# Altium schematic symbol library 15492543-B_L-Y.SchLib: 1 symbol
Pins are listed as number, name and electrical type; pins without a type are passive.

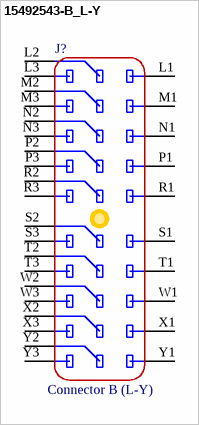
[diagram p0: symbol 15492543-B_L-Y]

## 15492543-B_L-Y
designator J?  Type: Connector B (L-Y)  (hidden comment: 15492543-B_L-Y)
CONNECTOR; Manufacturer: Delphi; Value: Cable 30 Pin; Supplier 1 Part Number: 829-15492543-B; CMW P/N: 15492543-B_L-Y; Manufacturer P/N: 15492543-B; Supplier 1: Mouser
pins: L1 TP8, L2 TP1, L3 AIN9, M1 TP9, M2 TP2, M3 AIN10, N1 TP10, N2 TP3, N3 AIN11, P1 TP11, P2 TP4, P3 AIN12, R1 TP12, R2 TP5, R3 PAIN, S1 TP13, S2 DLED, S3 TTLIN, T1 TP14, T2 TTLOUT, T3 +5OUT, W1 TP15, W2 GNDA, W3 GND, X1 LAUX0, X2 12VPR, X3 GND, Y1 LAUX1, Y2 12VO, Y3 12VO
1 alternate drawing of the same symbol